# Altium schematic symbol library 无刷驱动-Infineon-AUIRS2181S-GTM-6S.SchLib: 61 symbols (part 2 of 2)
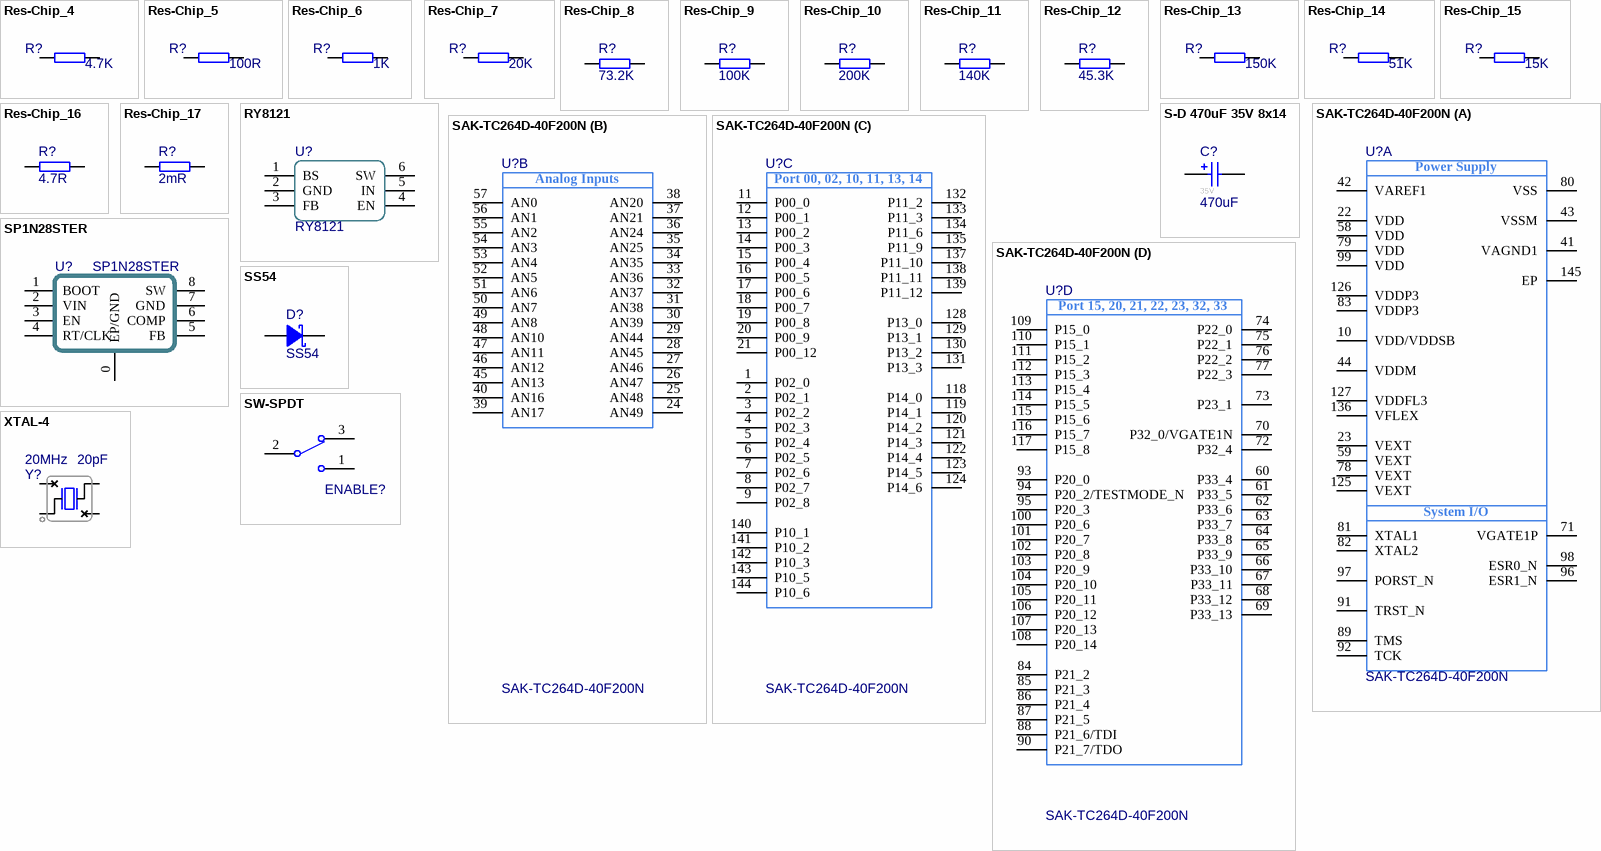
[diagram p2: symbols Res-Chip_4 to XTAL-4]

## Res-Chip_14
designator R?, comment value 51K  (hidden comment: 51K ±1%)
贴片电阻; Power: 1/8W; Revision: V1.0; Tolerance: ±1%
footprint RESC0603[0201]-L (0201贴片电阻 无丝印 2脚 0.60x0.30mm IPC高密度)
footprint RESC0603[0201]-M (0201贴片电阻 无丝印 2脚 0.60x0.30mm IPC低密度)
footprint RESC0603[0201]-N (0201贴片电阻 无丝印 2脚 0.60x0.30mm IPC中密度)
footprint RESC0603[0201]S-L (0201贴片电阻 有丝印 2脚 0.60x0.30mm IPC高密度)
footprint RESC0603[0201]S-M (0201贴片电阻 有丝印 2脚 0.60x0.30mm IPC低密度)
footprint RESC0603[0201]S-N (0201贴片电阻 有丝印 2脚 0.60x0.30mm IPC中密度)
footprint RESC1005[0402]-L (0402贴片电阻 无丝印 2脚 1.00x0.50mm IPC高密度)
footprint RESC1005[0402]S-M (0402贴片电阻 有丝印 2脚 1.00x0.50mm IPC低密度)
footprint RESC1005[0402]-M (0402贴片电阻 无丝印 2脚 1.00x0.50mm IPC低密度)
footprint RESC1005[0402]-N (0402贴片电阻 无丝印 2脚 1.00x0.50mm IPC中密度)
footprint RESC1005[0402]S-L (0402贴片电阻 有丝印 2脚 1.00x0.50mm IPC高密度)
footprint RESC1005[0402]S-N (0402贴片电阻 有丝印 2脚 1.00x0.50mm IPC中密度)
footprint RESC1608[0603]-L (0603贴片电阻 无丝印 2脚 1.60x0.80mm IPC高密度)
footprint RESC1608[0603]-M (0603贴片电阻 无丝印 2脚 1.60x0.80mm IPC低密度)
footprint RESC1608[0603]-N (0603贴片电阻 无丝印 2脚 1.60x0.80mm IPC中密度)
footprint RESC1608[0603]S-L (0603贴片电阻 有丝印 2脚 1.60x0.80mm IPC高密度)
footprint RESC1608[0603]S-M (0603贴片电阻 有丝印 2脚 1.60x0.80mm IPC低密度)
footprint RESC1608[0603]S-N (0603贴片电阻 有丝印 2脚 1.60x0.80mm IPC中密度)
footprint RESC2012[0805] (0805贴片电阻 无丝印 2脚 2.00x1.20mm IPC高密度)
footprint RESC2012[0805]S-L (0805贴片电阻 有丝印 2脚 2.00x1.20mm IPC高密度)
footprint RESC2012[0805]S-M (0805贴片电阻 有丝印 2脚 2.00x1.20mm IPC低密度)
footprint RESC2012[0805]S-N (0805贴片电阻 有丝印 2脚 2.00x1.20mm IPC中密度)
footprint RESC3216[1206] (1206贴片电阻 无丝印 2脚 3.20x1.60mm IPC高密度)
footprint RESC3216[1206]S-L (1206贴片电阻 有丝印 2脚 3.20x1.60mm IPC高密度)
footprint RESC3216[1206]S-M (1206贴片电阻 有丝印 2脚 3.20x1.60mm IPC低密度)
footprint RESC3216[1206]S-N (1206贴片电阻 有丝印 2脚 3.20x1.60mm IPC中密度)
footprint RESC3225[1210] (Chip Resistor, 2-Leads, Body 3.20x2.49mm, IPC Medium Density)
footprint RESC3225[1210]S (Silkscreen Outside, Chip Resistor, 2-Leads, Body 3.20x2.49mm, IPC Medium Density)
footprint RESC5025[2010] (Chip Resistor, 2-Leads, Body 5.00x2.50mm, IPC Medium Density)
footprint RESC5025[2010]S (Silkscreen Outside, Chip Resistor, 2-Leads, Body 5.00x2.50mm, IPC Medium Density)
footprint RESC6332[2512] (2512贴片电阻 无丝印 2脚 6.30x3.20mm IPC中密度)
footprint RESC6332[2512]S (2512贴片电阻 有丝印 2脚 6.30x3.20mm IPC中密度)
pins: 1, 2

## Res-Chip_15
designator R?, comment value 15K  (hidden comment: 15K ±1%)
贴片电阻; Power: 1/8W; Revision: V1.0; Tolerance: ±1%
footprint RESC0603[0201]-L (0201贴片电阻 无丝印 2脚 0.60x0.30mm IPC高密度)
footprint RESC0603[0201]-M (0201贴片电阻 无丝印 2脚 0.60x0.30mm IPC低密度)
footprint RESC0603[0201]-N (0201贴片电阻 无丝印 2脚 0.60x0.30mm IPC中密度)
footprint RESC0603[0201]S-L (0201贴片电阻 有丝印 2脚 0.60x0.30mm IPC高密度)
footprint RESC0603[0201]S-M (0201贴片电阻 有丝印 2脚 0.60x0.30mm IPC低密度)
footprint RESC0603[0201]S-N (0201贴片电阻 有丝印 2脚 0.60x0.30mm IPC中密度)
footprint RESC1005[0402]-L (0402贴片电阻 无丝印 2脚 1.00x0.50mm IPC高密度)
footprint RESC1005[0402]S-M (0402贴片电阻 有丝印 2脚 1.00x0.50mm IPC低密度)
footprint RESC1005[0402]-M (0402贴片电阻 无丝印 2脚 1.00x0.50mm IPC低密度)
footprint RESC1005[0402]-N (0402贴片电阻 无丝印 2脚 1.00x0.50mm IPC中密度)
footprint RESC1005[0402]S-L (0402贴片电阻 有丝印 2脚 1.00x0.50mm IPC高密度)
footprint RESC1005[0402]S-N (0402贴片电阻 有丝印 2脚 1.00x0.50mm IPC中密度)
footprint RESC1608[0603]-L (0603贴片电阻 无丝印 2脚 1.60x0.80mm IPC高密度)
footprint RESC1608[0603]-M (0603贴片电阻 无丝印 2脚 1.60x0.80mm IPC低密度)
footprint RESC1608[0603]-N (0603贴片电阻 无丝印 2脚 1.60x0.80mm IPC中密度)
footprint RESC1608[0603]S-L (0603贴片电阻 有丝印 2脚 1.60x0.80mm IPC高密度)
footprint RESC1608[0603]S-M (0603贴片电阻 有丝印 2脚 1.60x0.80mm IPC低密度)
footprint RESC1608[0603]S-N (0603贴片电阻 有丝印 2脚 1.60x0.80mm IPC中密度)
footprint RESC2012[0805] (0805贴片电阻 无丝印 2脚 2.00x1.20mm IPC高密度)
footprint RESC2012[0805]S-L (0805贴片电阻 有丝印 2脚 2.00x1.20mm IPC高密度)
footprint RESC2012[0805]S-M (0805贴片电阻 有丝印 2脚 2.00x1.20mm IPC低密度)
footprint RESC2012[0805]S-N (0805贴片电阻 有丝印 2脚 2.00x1.20mm IPC中密度)
footprint RESC3216[1206] (1206贴片电阻 无丝印 2脚 3.20x1.60mm IPC高密度)
footprint RESC3216[1206]S-L (1206贴片电阻 有丝印 2脚 3.20x1.60mm IPC高密度)
footprint RESC3216[1206]S-M (1206贴片电阻 有丝印 2脚 3.20x1.60mm IPC低密度)
footprint RESC3216[1206]S-N (1206贴片电阻 有丝印 2脚 3.20x1.60mm IPC中密度)
footprint RESC3225[1210] (Chip Resistor, 2-Leads, Body 3.20x2.49mm, IPC Medium Density)
footprint RESC3225[1210]S (Silkscreen Outside, Chip Resistor, 2-Leads, Body 3.20x2.49mm, IPC Medium Density)
footprint RESC5025[2010] (Chip Resistor, 2-Leads, Body 5.00x2.50mm, IPC Medium Density)
footprint RESC5025[2010]S (Silkscreen Outside, Chip Resistor, 2-Leads, Body 5.00x2.50mm, IPC Medium Density)
footprint RESC6332[2512] (2512贴片电阻 无丝印 2脚 6.30x3.20mm IPC中密度)
footprint RESC6332[2512]S (2512贴片电阻 有丝印 2脚 6.30x3.20mm IPC中密度)
pins: 1, 2

## Res-Chip_16
designator R?, comment value 4.7R  (hidden comment: 4.7R ±1%)
贴片电阻; Power: 1/8W; Revision: V1.0; Tolerance: ±1%
footprint RESC0603[0201]-L (0201贴片电阻 无丝印 2脚 0.60x0.30mm IPC高密度)
footprint RESC0603[0201]-M (0201贴片电阻 无丝印 2脚 0.60x0.30mm IPC低密度)
footprint RESC0603[0201]-N (0201贴片电阻 无丝印 2脚 0.60x0.30mm IPC中密度)
footprint RESC0603[0201]S-L (0201贴片电阻 有丝印 2脚 0.60x0.30mm IPC高密度)
footprint RESC0603[0201]S-M (0201贴片电阻 有丝印 2脚 0.60x0.30mm IPC低密度)
footprint RESC0603[0201]S-N (0201贴片电阻 有丝印 2脚 0.60x0.30mm IPC中密度)
footprint RESC1005[0402]-L (0402贴片电阻 无丝印 2脚 1.00x0.50mm IPC高密度)
footprint RESC1005[0402]S-M (0402贴片电阻 有丝印 2脚 1.00x0.50mm IPC低密度)
footprint RESC1005[0402]-M (0402贴片电阻 无丝印 2脚 1.00x0.50mm IPC低密度)
footprint RESC1005[0402]-N (0402贴片电阻 无丝印 2脚 1.00x0.50mm IPC中密度)
footprint RESC1005[0402]S-L (0402贴片电阻 有丝印 2脚 1.00x0.50mm IPC高密度)
footprint RESC1005[0402]S-N (0402贴片电阻 有丝印 2脚 1.00x0.50mm IPC中密度)
footprint RESC1608[0603]-L (0603贴片电阻 无丝印 2脚 1.60x0.80mm IPC高密度)
footprint RESC1608[0603]-M (0603贴片电阻 无丝印 2脚 1.60x0.80mm IPC低密度)
footprint RESC1608[0603]-N (0603贴片电阻 无丝印 2脚 1.60x0.80mm IPC中密度)
footprint RESC1608[0603]S-L (0603贴片电阻 有丝印 2脚 1.60x0.80mm IPC高密度)
footprint RESC1608[0603]S-M (0603贴片电阻 有丝印 2脚 1.60x0.80mm IPC低密度)
footprint RESC1608[0603]S-N (0603贴片电阻 有丝印 2脚 1.60x0.80mm IPC中密度)
footprint RESC2012[0805] (0805贴片电阻 无丝印 2脚 2.00x1.20mm IPC高密度)
footprint RESC2012[0805]S-L (0805贴片电阻 有丝印 2脚 2.00x1.20mm IPC高密度)
footprint RESC2012[0805]S-M (0805贴片电阻 有丝印 2脚 2.00x1.20mm IPC低密度)
footprint RESC2012[0805]S-N (0805贴片电阻 有丝印 2脚 2.00x1.20mm IPC中密度)
footprint RESC3216[1206] (1206贴片电阻 无丝印 2脚 3.20x1.60mm IPC高密度)
footprint RESC3216[1206]S-L (1206贴片电阻 有丝印 2脚 3.20x1.60mm IPC高密度)
footprint RESC3216[1206]S-M (1206贴片电阻 有丝印 2脚 3.20x1.60mm IPC低密度)
footprint RESC3216[1206]S-N (1206贴片电阻 有丝印 2脚 3.20x1.60mm IPC中密度)
footprint RESC3225[1210] (Chip Resistor, 2-Leads, Body 3.20x2.49mm, IPC Medium Density)
footprint RESC3225[1210]S (Silkscreen Outside, Chip Resistor, 2-Leads, Body 3.20x2.49mm, IPC Medium Density)
footprint RESC5025[2010] (Chip Resistor, 2-Leads, Body 5.00x2.50mm, IPC Medium Density)
footprint RESC5025[2010]S (Silkscreen Outside, Chip Resistor, 2-Leads, Body 5.00x2.50mm, IPC Medium Density)
footprint RESC6332[2512] (2512贴片电阻 无丝印 2脚 6.30x3.20mm IPC中密度)
footprint RESC6332[2512]S (2512贴片电阻 有丝印 2脚 6.30x3.20mm IPC中密度)
pins: 1, 2

## Res-Chip_17
designator R?, comment value 2mR  (hidden comment: 2mR ±1%)
贴片电阻; Power: 1/8W; Revision: V1.0; Tolerance: ±1%
footprint RESC0603[0201]-L (0201贴片电阻 无丝印 2脚 0.60x0.30mm IPC高密度)
footprint RESC0603[0201]-M (0201贴片电阻 无丝印 2脚 0.60x0.30mm IPC低密度)
footprint RESC0603[0201]-N (0201贴片电阻 无丝印 2脚 0.60x0.30mm IPC中密度)
footprint RESC0603[0201]S-L (0201贴片电阻 有丝印 2脚 0.60x0.30mm IPC高密度)
footprint RESC0603[0201]S-M (0201贴片电阻 有丝印 2脚 0.60x0.30mm IPC低密度)
footprint RESC0603[0201]S-N (0201贴片电阻 有丝印 2脚 0.60x0.30mm IPC中密度)
footprint RESC1005[0402]-L (0402贴片电阻 无丝印 2脚 1.00x0.50mm IPC高密度)
footprint RESC1005[0402]S-M (0402贴片电阻 有丝印 2脚 1.00x0.50mm IPC低密度)
footprint RESC1005[0402]-M (0402贴片电阻 无丝印 2脚 1.00x0.50mm IPC低密度)
footprint RESC1005[0402]-N (0402贴片电阻 无丝印 2脚 1.00x0.50mm IPC中密度)
footprint RESC1005[0402]S-L (0402贴片电阻 有丝印 2脚 1.00x0.50mm IPC高密度)
footprint RESC1005[0402]S-N (0402贴片电阻 有丝印 2脚 1.00x0.50mm IPC中密度)
footprint RESC1608[0603]-L (0603贴片电阻 无丝印 2脚 1.60x0.80mm IPC高密度)
footprint RESC1608[0603]-M (0603贴片电阻 无丝印 2脚 1.60x0.80mm IPC低密度)
footprint RESC1608[0603]-N (0603贴片电阻 无丝印 2脚 1.60x0.80mm IPC中密度)
footprint RESC1608[0603]S-L (0603贴片电阻 有丝印 2脚 1.60x0.80mm IPC高密度)
footprint RESC1608[0603]S-M (0603贴片电阻 有丝印 2脚 1.60x0.80mm IPC低密度)
footprint RESC1608[0603]S-N (0603贴片电阻 有丝印 2脚 1.60x0.80mm IPC中密度)
footprint RESC2012[0805] (0805贴片电阻 无丝印 2脚 2.00x1.20mm IPC高密度)
footprint RESC2012[0805]S-L (0805贴片电阻 有丝印 2脚 2.00x1.20mm IPC高密度)
footprint RESC2012[0805]S-M (0805贴片电阻 有丝印 2脚 2.00x1.20mm IPC低密度)
footprint RESC2012[0805]S-N (0805贴片电阻 有丝印 2脚 2.00x1.20mm IPC中密度)
footprint RESC3216[1206] (1206贴片电阻 无丝印 2脚 3.20x1.60mm IPC高密度)
footprint RESC3216[1206]S-L (1206贴片电阻 有丝印 2脚 3.20x1.60mm IPC高密度)
footprint RESC3216[1206]S-M (1206贴片电阻 有丝印 2脚 3.20x1.60mm IPC低密度)
footprint RESC3216[1206]S-N (1206贴片电阻 有丝印 2脚 3.20x1.60mm IPC中密度)
footprint RESC3225[1210] (Chip Resistor, 2-Leads, Body 3.20x2.49mm, IPC Medium Density)
footprint RESC3225[1210]S (Silkscreen Outside, Chip Resistor, 2-Leads, Body 3.20x2.49mm, IPC Medium Density)
footprint RESC5025[2010] (Chip Resistor, 2-Leads, Body 5.00x2.50mm, IPC Medium Density)
footprint RESC5025[2010]S (Silkscreen Outside, Chip Resistor, 2-Leads, Body 5.00x2.50mm, IPC Medium Density)
footprint RESC6332[2512] (2512贴片电阻 无丝印 2脚 6.30x3.20mm IPC中密度)
footprint RESC6332[2512]S (2512贴片电阻 有丝印 2脚 6.30x3.20mm IPC中密度)
pins: 1, 2

## RY8121
designator U?
18V 2A 1MHz Synchronous Step-Down Regulator
footprint SOT-23-6 (SOT23, 6-Leads, Body 2.90x2.80mm, Pitch 0.95mm, IPC Medium Density)
pins: 1 BS, 2 GND, 3 FB, 4 EN, 5 IN, 6 SW

## S-D 470uF 35V 8x14
designator C?, comment value 470uF  Voltage: 35V  (hidden comment: 470uF 35V 聚合物固态)
直插固态电容 470uF 35V 8x14; Revision: V1.0; Type: 聚合物固态
footprint Cap-S-D 3.5-8x14 (固态直插 3.5mm间距 8x14mm)
pins: 1, 2

## SAK-TC264D-40F200N
designator U?
footprint LQFP144_L_E (QFP,0.50mm pitch,square;144 pin,IPC High Density,20.00mm L X 20.00mm W X 3.40mm H body)
footprint LQFP144_M_E (QFP,0.50mm pitch,square;144 pin,IPC Low Density,20.00mm L X 20.00mm W X 3.40mm H body)
footprint LQFP144_N_E (QFP,0.50mm pitch,square;144 pin,IPC Medium Density,20.00mm L X 20.00mm W X 3.40mm H body)
part A pins: 10 VDD/VDDSB "Emulation Device: Emulation SRAM Standby Power Supply (1.3V)", 22 VDD "Digital Core Power Supply (1.3V)", 23 VEXT "External Supply (5V / 3.3V)", 41 VAGND1 "Negative Analog Reference Voltage 1", 42 VAREF1 "Positive Analog Reference Voltage 1", 43 VSSM "Analog Ground for VDDM", 44 VDDM "ADC Analog Power Supply (3.3V / 5V)", 58 VDD "Digital Core Power Supply (1.3V)", 59 VEXT "External Supply (5V / 3.3V)", 71 VGATE1P "External Pass Device gate control for EVR13", 78 VEXT "External Supply (5V / 3.3V)", 79 VDD "Digital Core Power Supply (1.3V)", 80 VSS "Digital Ground", 81 XTAL1 "Main Oscillator/PLL/Clock Generator Input", 82 XTAL2 "Main Oscillator/PLL/Clock Generator Output", 83 VDDP3 "Digital Power Supply for Oscillator, LVDSH and A2 pads (3.3V)", 89 TMS "JTAG Module State Machine Control Input", 91 TRST_N "JTAG Module Reset/Enable Input", 92 TCK "JTAG Module Clock Input", 96 ESR1_N "External System Request Reset 1", 97 PORST_N "Power On Reset Input", 98 ESR0_N "External System Request Reset 0", 99 VDD "Digital Core Power Supply (1.3V)", 125 VEXT "External Supply (5V / 3.3V)", 126 VDDP3 "Digital Power Supply for Flash (3.3V)", 127 VDDFL3 "Flash Power Supply (3.3V)", 136 VFLEX "Digital Power Supply for Flex Port Pads (5V / 3.3V)", 145 EP "Exposed Pad"
part B pins: 24 AN49 "Analog input 49", 25 AN48 "Analog input 48", 26 AN47 "Analog input 47", 27 AN46 "Analog input 46", 28 AN45 "Analog input 45", 29 AN44 "Analog input 44", 30 AN39 "Analog input 39", 31 AN38 "Analog input 38", 32 AN37 "Analog input 37", 33 AN36 "Analog input 36", 34 AN35 "Analog input 35", 35 AN25 "Analog input 25", 36 AN24 "Analog input 24", 37 AN21 "Analog input 21", 38 AN20 "Analog input 20", 39 AN17 "Analog input 17", 40 AN16 "Analog input 16", 45 AN13 "Analog input 13", 46 AN12 "Analog input 12", 47 AN11 "Analog input 11", 48 AN10 "Analog input 10", 49 AN8 "Analog input 8", 50 AN7 "Analog input 7", 51 AN6 "Analog input 6", 52 AN5 "Analog input 5", 53 AN4 "Analog input 4", 54 AN3 "Analog input 3", 55 AN2 "Analog input 2", 56 AN1 "Analog input 1", 57 AN0 "Analog input 0"
part C pins: 1 P02_0 "General-purpose Input/Output", 2 P02_1 "General-purpose Input/Output", 3 P02_2 "General-purpose Input/Output", 4 P02_3 "General-purpose Input/Output", 5 P02_4 "General-purpose Input/Output", 6 P02_5 "General-purpose Input/Output", 7 P02_6 "General-purpose Input/Output", 8 P02_7 "General-purpose Input/Output", 9 P02_8 "General-purpose Input/Output", 11 P00_0 "General-purpose Input/Output", 12 P00_1 "General-purpose Input/Output", 13 P00_2 "General-purpose Input/Output", 14 P00_3 "General-purpose Input/Output", 15 P00_4 "General-purpose Input/Output", 16 P00_5 "General-purpose Input/Output", 17 P00_6 "General-purpose Input/Output", 18 P00_7 "General-purpose Input/Output", 19 P00_8 "General-purpose Input/Output", 20 P00_9 "General-purpose Input/Output", 21 P00_12 "General-purpose Input/Output", 118 P14_0 "General-purpose Input/Output", 119 P14_1 "General-purpose Input/Output", 120 P14_2 "General-purpose Input/Output", 121 P14_3 "General-purpose Input/Output", 122 P14_4 "General-purpose Input/Output", 123 P14_5 "General-purpose Input/Output", 124 P14_6 "General-purpose Input/Output", 128 P13_0 "General-purpose Input/Output", 129 P13_1 "General-purpose Input/Output", 130 P13_2 "General-purpose Input/Output", 131 P13_3 "General-purpose Input/Output", 132 P11_2 "General-purpose Input/Output", 133 P11_3 "General-purpose Input/Output", 134 P11_6 "General-purpose Input/Output", 135 P11_9 "General-purpose Input/Output", 137 P11_10 "General-purpose Input/Output", 138 P11_11 "General-purpose Input/Output", 139 P11_12 "General-purpose Input/Output", 140 P10_1 "General-purpose Input/Output", 141 P10_2 "General-purpose Input/Output", 142 P10_3 "General-purpose Input/Output", 143 P10_5 "General-purpose Input/Output", 144 P10_6 "General-purpose input/output"
part D pins: 60 P33_4 "General-purpose Input/Output", 61 P33_5 "General-purpose Input/Output", 62 P33_6 "General-purpose Input/Output", 63 P33_7 "General-purpose Input/Output", 64 P33_8 "General-purpose Input/Output", 65 P33_9 "General-purpose Input/Output", 66 P33_10 "General-purpose Input/Output", 67 P33_11 "General-purpose Input/Output", 68 P33_12 "General-purpose Input/Output", 69 P33_13 "General-purpose Input/Output", 70 P32_0/VGATE1N "General-purpose Input/Output/SMPS mode: Analog Output", 72 P32_4 "General-purpose Input/Output", 73 P23_1 "General-purpose Input/Output", 74 P22_0 "General-purpose Input/Output", 75 P22_1 "General-purpose Input/Output", 76 P22_2 "General-purpose Input/Output", 77 P22_3 "General-purpose Input/Output", 84 P21_2 "General-purpose Input/Output", 85 P21_3 "General-purpose Input/Output", 86 P21_4 "General-purpose Input/Output", 87 P21_5 "General-purpose Input/Output", 88 P21_6/TDI "General-purpose Input/Output/OCDS (JTAG) Input", 90 P21_7/TDO "General-purpose Input/Output/OCDS (JTAG)", 93 P20_0 "General-purpose Input/Output", 94 P20_2/TESTMODE_N "General-purpose Input/Output/OCDS Input", 95 P20_3 "General-purpose Input/Output", 100 P20_6 "General-purpose Input/Output", 101 P20_7 "General-purpose Input/Output", 102 P20_8 "General-purpose Input/Output", 103 P20_9 "General-purpose Input/Output", 104 P20_10 "General-purpose Input/Output", 105 P20_11 "General-purpose Input/Output", 106 P20_12 "General-purpose Input/Output", 107 P20_13 "General-purpose Input/Output", 108 P20_14 "General-purpose Input/Output", 109 P15_0 "General-purpose Input/Output", 110 P15_1 "General-purpose Input/Output", 111 P15_2 "General-purpose Input/Output", 112 P15_3 "General-purpose Input/Output", 113 P15_4 "General-purpose Input/Output", 114 P15_5 "General-purpose Input/Output", 115 P15_6 "General-purpose Input/Output", 116 P15_7 "General-purpose Input/Output", 117 P15_8 "General-purpose Input/Output"
part A text: Power Supply; System I/O
part B text: Analog Inputs
part C text: Port 00, 02, 10, 11, 13, 14
part D text: Port 15, 20, 21, 22, 23, 32, 33

## SP1N28STER
designator U?
Revision: V1.0; Value: SP1N28STER
footprint SOP-8E (SOIC,1.27mm pitch;8 pin,3.90mm W X 4.88mm L X 1.73mm H body)
pins: 0 EP/GND, 1 BOOT, 2 VIN, 3 EN, 4 RT/CLK, 5 FB, 6 COMP, 7 GND, 8 SW

## SS54
designator D?
SS54 肖特基二极管; Revision: V1.0; Value: SS54
footprint SMA-L[DO-214AC] (SMA 二极管 贴片 IPC高密度)
pins: A, K

## SW-SPDT
designator ENABLE?  (value not drawn)
单刀双掷开关 3脚船型、钮子、拨动开关 SPDT Subminiature Toggle Switch; Published: 24-Mar-1999; Publisher: Altium Limited; Price(RMB): 0.000
footprint ToggleSwitch 7102
footprint SS12D06 (拨动开关，弯脚，脚距4.8)
footprint SS12D10 (拨动开关 直脚 脚距4.8)
footprint SS12D07VG4
footprint MSK-12C02 (MSK-12C02 侧贴2档7脚开关 带定位柱)
pins: 1, 2, 3

## XTAL-4
designator Y?, comment Load Capactiance: 20pF  (hidden comment: 20MHz)
四脚无源晶振 Crystal Oscillator; Published: 8-Jun-2000; Revision: July-2002: Re-released for DXP Platform.; Publisher: Altium Limited; Frequency: 20MHz
footprint X2016-4 (2016 4脚 晶振)
footprint X3225-4 (3225 4脚 晶振)
pins: 1 OSC1, 2 NC, 3 OSC2, 4 NC